# EAGLE library part S25FL128L (library cypress)
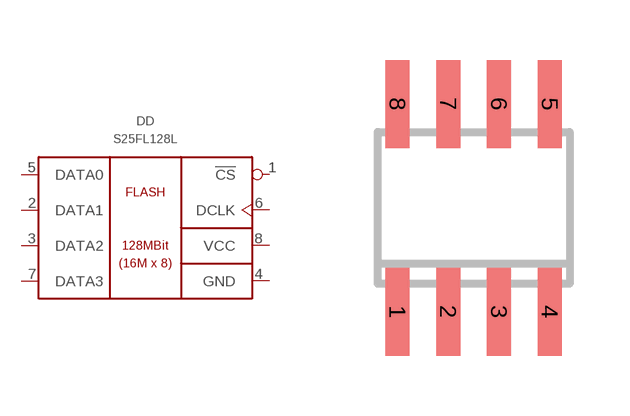
[diagram p4: symbol with the pads of SOIC8; footprint SOIC8]

Designator prefix DD

## S25FL128LAGMFM010  [SOIC8]
1  !CS  in
2  DATA1
3  DATA2
4  GND  pwr
5  DATA0
6  DCLK  in
7  DATA3
8  VCC  pwr

## Footprint SOIC8 (pad centres in mm)
Small Outline IC
smd 0.6 x 2.2: 1 -1.905,-2.6; 2 -0.635,-2.6; 3 0.635,-2.6; 4 1.905,-2.6; 5 1.905,2.6; 6 0.635,2.6; 7 -0.635,2.6; 8 -1.905,2.6